# EAGLE library part 0V7670_CAMERA (library OV7670_Camera)
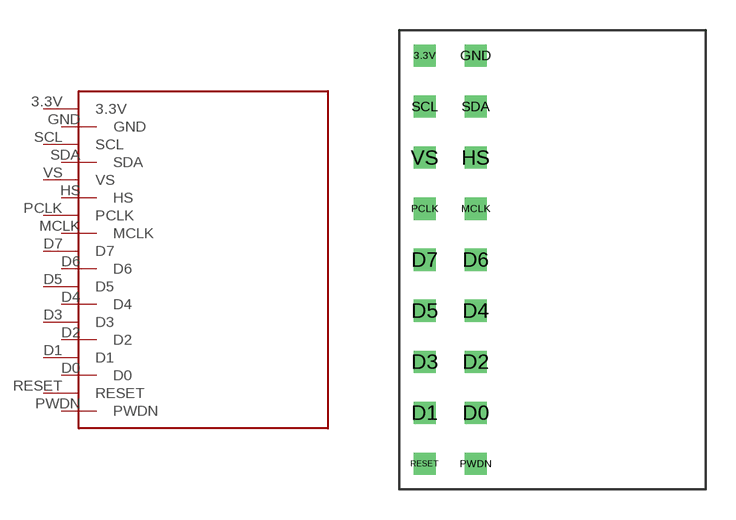
[diagram p0: symbol with the pads of OV7670; footprint OV7670]

Designator prefix -

## 0V7670_CAMERA  [OV7670]
3.3V  3.3V
D0  D0
D1  D1
D2  D2
D3  D3
D4  D4
D5  D5
D6  D6
D7  D7
GND  GND
HS  HS
MCLK  MCLK
PCLK  PCLK
PWDN  PWDN
RESET  RESET
SCL  SCL
SDA  SDA
VS  VS

## Footprint OV7670 (pad centres in mm)
drill 0.6 square: 3.3V -1.27,5.08; D0 1.27,-12.7; D1 -1.27,-12.7; D2 1.27,-10.16; D3 -1.27,-10.16; D4 1.27,-7.62; D5 -1.27,-7.62; D6 1.27,-5.08; D7 -1.27,-5.08; GND 1.27,5.08; HS 1.27,0; MCLK 1.27,-2.54; PCLK -1.27,-2.54; PWDN 1.27,-15.24; RESET -1.27,-15.24; SCL -1.27,2.54; SDA 1.27,2.54; VS -1.27,0